# Altium footprint library STM32P48.PcbLib: 22 footprints (part 2 of 2)
Each footprint in its own frame and in the unit in brackets; x right, y up, seen from the top. Pads: shape width x height; smd on the part's side, far side on the other; paste and mask are expansions set on the pad; w line width, h text height; cw(c..) or ccw(c..) is an arc to the next point about the centre after c.
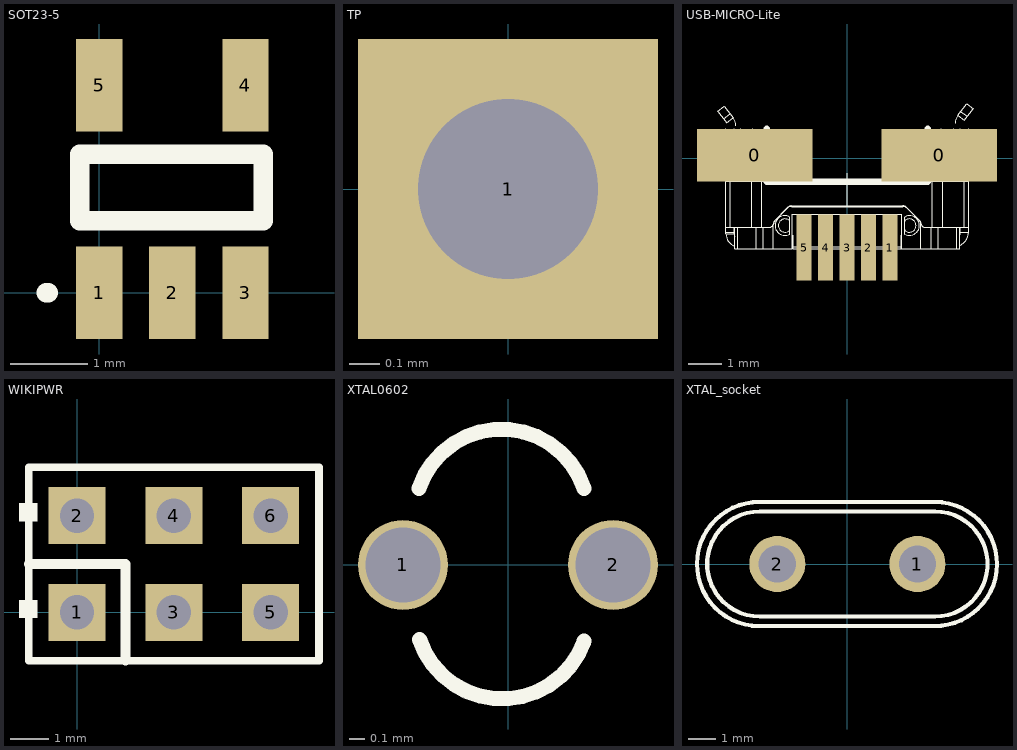
[diagram p1: the footprints below, top view; thin cyan lines are the x and y axes]

## SOT23-5 [mm]
pads (5):
  rect 0.6x1.2 smd: 1(0,0) 2(0.95,0) 3(1.9,0) 4(1.9,2.7) 5(0,2.7)
Top Overlay:
  lines w0.254: -0.686,0 -0.66,0 ; -0.254,0.94 -0.254,1.803 2.134,1.803 2.134,0.94 2.108,0.94 -0.254,0.94
3D body: height 1.1, standoff 0, extent -0.317,0.699 2.35,2.096

## TP [mm] "2.00MM Hole"
pads (1):
  rect 1x1 hole 0.6: 1(0,0)

## USB-MICRO-Lite [mm] "Connector; USB2.0, Type B, SM; 5 Position; Right Angle"
height 3.9
pads (7):
  rect 3.5x1.6 smd: 0(-2.802,0.088) 0(2.798,0.088)
  rect 0.45x2 smd: 1(1.298,-2.714) 2(0.648,-2.714) 3(-0.002,-2.714) 4(-0.652,-2.714) 5(-1.302,-2.714)
Top Overlay:
  drawing of 182 lines, arcs and shapes, not listed

## WIKIPWR [mm] "Connector; Header; 3x2 Position"
pads (6):
  rect 1.5x1.5 hole 0.9: 1(0,0) 2(0,2.54) 3(2.54,0) 4(2.54,2.54) 5(5.08,0) 6(5.08,2.54)
Top Overlay:
  rectangle: -1.524,2.388 -1.041,2.87
  rectangle: -1.524,-0.152 -1.041,0.33
  lines w0.2: 1.482,-1.27 6.35,-1.27 ; 6.35,-1.27 6.35,3.81 -1.27,3.81 -1.27,-1.27 6.35,-1.27
  lines w0.254: -1.27,1.27 1.27,1.27 1.27,-1.27

## XTAL0602 [mm]
height 5.08
pads (2):
  round 0.6 hole 0.5: 1(-0.7,0) 2(0.7,0)
Top Overlay:
  lines w0.1: -0.595,0.508 cw(c-0.043,0.324) 0.508,0.508 ; -0.59,-0.496 ccw(c-0.039,-0.312) 0.508,-0.508

## XTAL_socket [mil]
pads (2):
  round 80 hole 53: 1(100,0) 2(-100,0)
Top Overlay:
  lines w6: -126,-88.58 cw(c-126,0) -125.09,88.58 125,88.58 cw(c125,0) 124.07,-88.58 -126,-88.58 ; -125,-75 cw(c-125,0) -125,75 125,75 cw(c125,0) 125,-75 -125,-75